# Altium schematic symbol library DIODE,TVS,3.3V,SOD882.Schlib: 1 symbol
Pins are listed as number, name and electrical type; pins without a type are passive.

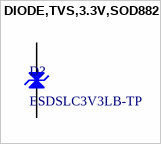
[diagram p0: symbol DIODE,TVS,3.3V,SOD882]

## DIODE,TVS,3.3V,SOD882
designator D?, comment ESDSLC3V3LB-TP
20V Clamp 5A (8/20µs) Ipp Tvs Diode Surface Mount DFN1006-2
pins: 1 K, 2 A